# Altium footprint library 新塘10W双线圈苹果8快速无线充电.PcbLib: 21 footprints (part 2 of 2)
Each footprint in its own frame and in the unit in brackets; x right, y up, seen from the top. Pads: shape width x height; smd on the part's side, far side on the other; paste and mask are expansions set on the pad; w line width, h text height; cw(c..) or ccw(c..) is an arc to the next point about the centre after c.
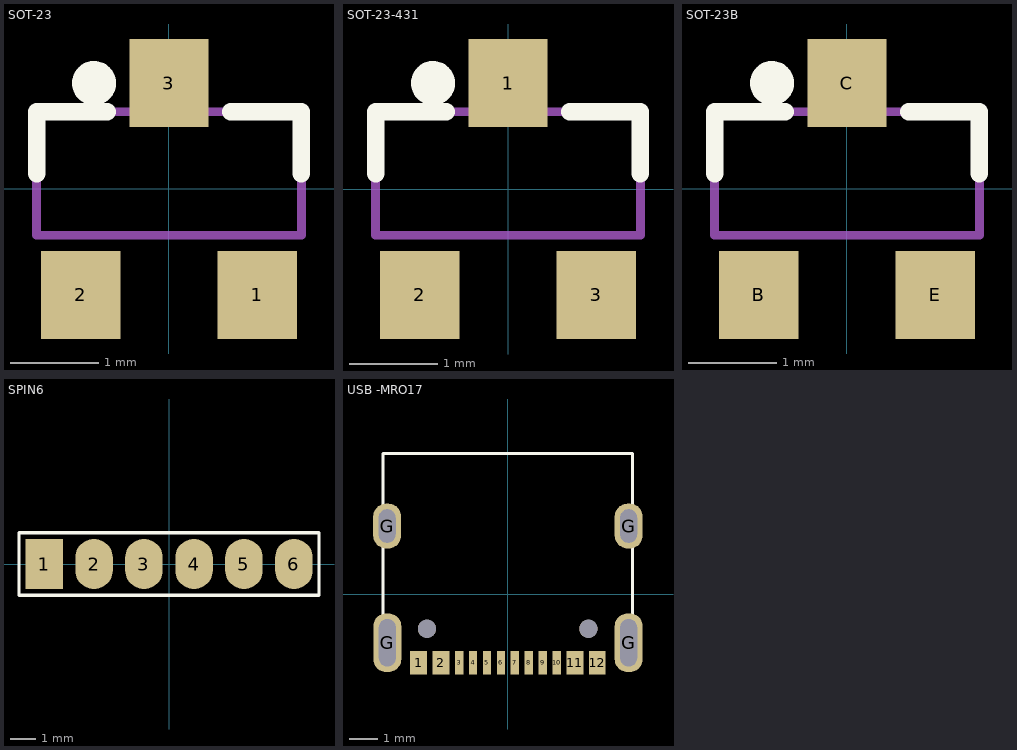
[diagram p1: the footprints below, top view; thin cyan lines are the x and y axes]

## SOT-23 [mm]
height 1.77
pads (3):
  rect 0.9x1 smd: 1(1,-1.2) 2(-1,-1.2) 3(0,1.2)
Top Overlay:
  circle w0.25: c-0.85,1.2 r0.125
  lines w0.2: -1.5,0.175 -1.5,0.875 -0.7,0.875 ; 0.7,0.875 1.5,0.875 1.5,0.175
Mechanical 13:
  lines w0.1: -1.5,-0.525 1.5,-0.525 1.5,0.875 -1.5,0.875 -1.5,-0.525
3D body: height 1.2, standoff 0, extent -1.451,-1.399 1.449,1.401
3D body: height 1.1, standoff 0.1, extent -1.5,-0.525 1.5,0.875

## SOT-23-431 [mm]
height 1.77
pads (3):
  rect 0.9x1 smd: 1(0,1.2) 2(-1,-1.2) 3(1,-1.2)
Top Overlay:
  circle w0.25: c-0.85,1.2 r0.125
  lines w0.2: -1.5,0.175 -1.5,0.875 -0.7,0.875 ; 0.7,0.875 1.5,0.875 1.5,0.175
Mechanical 13:
  lines w0.1: -1.5,-0.525 -1.5,0.875 1.5,0.875 1.5,-0.525 -1.5,-0.525
3D body: height 1.2, standoff 0, extent -1.451,-1.399 1.449,1.401
3D body: height 1.1, standoff 0.1, extent -1.5,-0.525 1.5,0.875

## SOT-23B [mm]
height 1.77
pads (3):
  rect 0.9x1 smd: B(-1,-1.2) C(0,1.2) E(1,-1.2)
Top Overlay:
  circle w0.25: c-0.85,1.2 r0.125
  lines w0.2: -1.5,0.175 -1.5,0.875 -0.7,0.875 ; 0.7,0.875 1.5,0.875 1.5,0.175
Mechanical 13:
  lines w0.1: -1.5,-0.525 1.5,-0.525 1.5,0.875 -1.5,0.875 -1.5,-0.525
3D body: height 1.2, standoff 0, extent -1.449,-1.401 1.451,1.399

## SPIN6 [mm]
height 1.77
pads (6):
  rect 1.5x2 smd paste-200: 1(-5,0)
  oval 1.5x2 smd paste-200: 2(-3,0) 3(-1,0) 4(1,0) 5(3,0) 6(5,0)
Top Overlay:
  lines w0.127: -6,-1.25 -6,1.25 6,1.25 6,-1.25 -6,-1.25

## USB -MRO17 [mm]
height 2
pads (18):
  rect 0.6x0.85 smd: 1(-3.2,-2.447) 2(-2.4,-2.447) 11(2.4,-2.447) 12(3.2,-2.447)
  rect 0.3x0.85 smd: 3(-1.75,-2.447) 4(-1.25,-2.447) 5(-0.75,-2.447) 6(-0.25,-2.447) 7(0.25,-2.447) 8(0.75,-2.447) 9(1.25,-2.447) 10(1.75,-2.447)
  rrect90% 1x1.6 hole 0.6 slot 1.2 at 90 deg: G(-4.325,2.448) G(4.325,2.448)
  rrect90% 1x2.1 hole 0.6 slot 1.7 at 90 deg: G(-4.32,-1.732) G(4.325,-1.732)
  round 0.65 hole 0.65: ""(-2.9,-1.232) ""(2.88,-1.232)
Top Overlay:
  lines w0.1: -4.475,-2.302 -4.475,5.048 4.465,5.048 4.465,-2.302